# EAGLE library part UART_W65C51N (library 07-Retrocomputing)
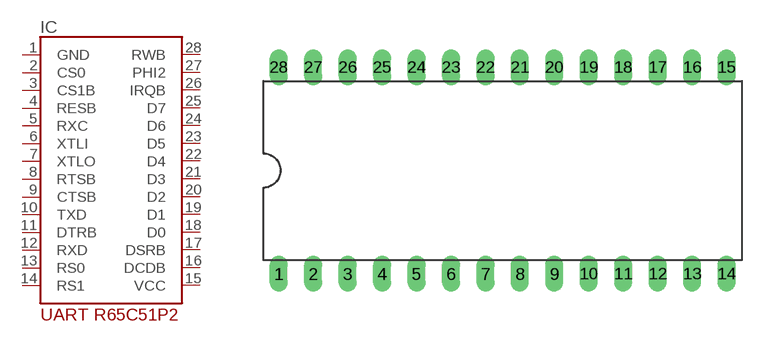
[diagram p12: symbol with the pads of DIL28-6; footprint DIL28-6]

Designator prefix IC

## UART_W65C51N  [DIL28-6]
1  GND
2  CS0
3  CS1B
4  RESB
5  RXC
6  XTLI
7  XTLO
8  RTSB
9  CTSB
10  TXD
11  DTRB
12  RXD
13  RS0
14  RS1
15  VCC
16  DCDB
17  DSRB
18  D0
19  D1
20  D2
21  D3
22  D4
23  D5
24  D6
25  D7
26  IRQB
27  PHI2
28  RWB

## Footprint DIL28-6 (pad centres in mm)
Dual In Line Package 0.6 inch
drill 0.813 long: 1 -16.51,-7.62; 2 -13.97,-7.62; 3 -11.43,-7.62; 4 -8.89,-7.62; 5 -6.35,-7.62; 6 -3.81,-7.62; 7 -1.27,-7.62; 8 1.27,-7.62; 9 3.81,-7.62; 10 6.35,-7.62; 11 8.89,-7.62; 12 11.43,-7.62; 13 13.97,-7.62; 14 16.51,-7.62; 15 16.51,7.62; 16 13.97,7.62; 17 11.43,7.62; 18 8.89,7.62; 19 6.35,7.62; 20 3.81,7.62; 21 1.27,7.62; 22 -1.27,7.62; 23 -3.81,7.62; 24 -6.35,7.62; 25 -8.89,7.62; 26 -11.43,7.62; 27 -13.97,7.62; 28 -16.51,7.62